# Altium schematic symbol library LEDs.SchLib: 3 symbols
Pins are listed as number, name and electrical type; pins without a type are passive.

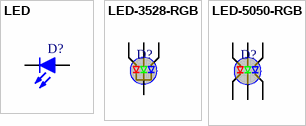
[diagram p0: symbols LED to LED-5050-RGB]

## LED
designator D?  (value not drawn)
footprint LED-0603-B (SMDCHIP SIZE)
footprint LED-0603-G (SMDCHIP-SIZE)
footprint LED-0603-R (SMDCHIP SIZE)
footprint LED-0805-B
footprint LED-0805-G
footprint LED-0805-O
footprint LED-0805-R
pins: 1 A, 2 K

## LED-3528-RGB
designator D?, comment RGB3528  (value not drawn)
footprint LED-3528-RGB
pins: 1, 2, 3, 4

## LED-5050-RGB
designator D?, comment RGB5050  (value not drawn)
footprint LED-5050-RGB
pins: 1, 2, 3, 4, 5, 6